# Altium schematic symbol library 610 0xx 133 21.SchLib: 12 symbols
Pins are listed as number, name and electrical type; pins without a type are passive.

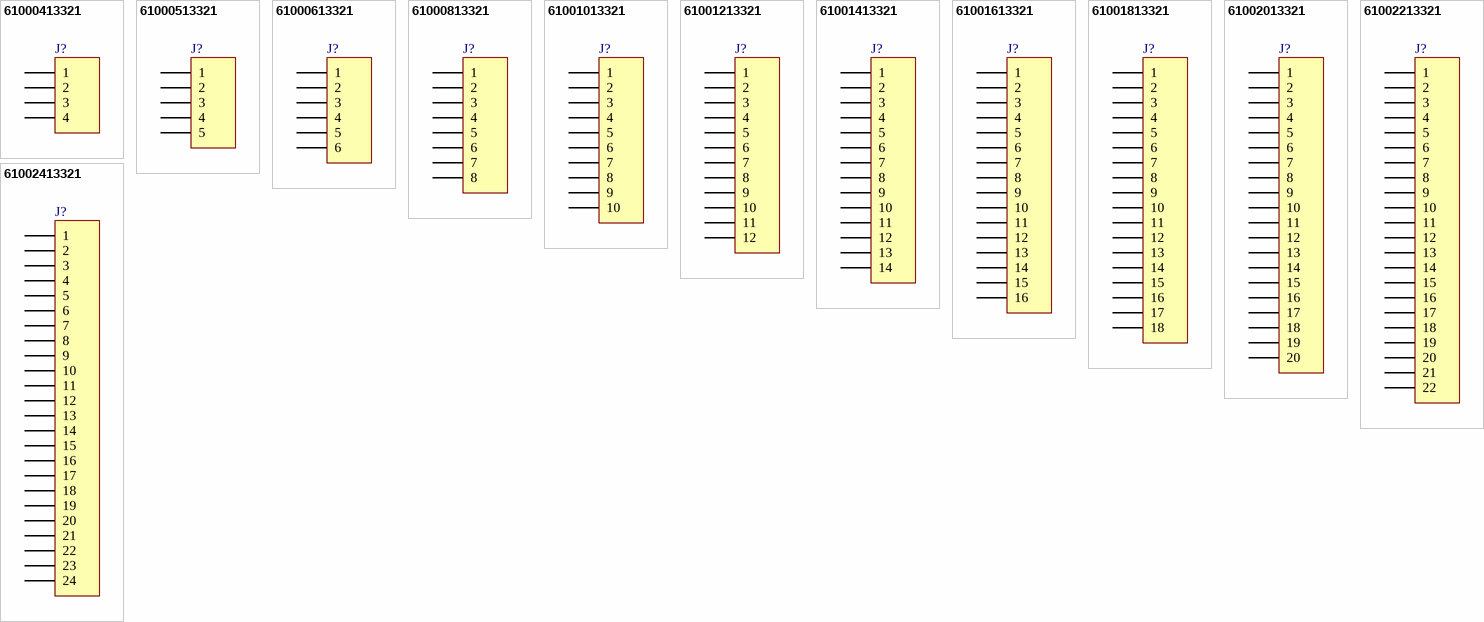
[diagram p0: symbols 61000413321 to 61002413321]

## 61000413321
designator J?, comment 04p  (value not drawn)
WR-PHD 2.54 mm SMT Socket Header, 04p; PartNumber: 61000413321; PublishedDate: July 2016; Publisher: Wurth Elektronik; ComponentLink1Description: Manufacturer; ComponentLink1URL: http://www.we-online.de; ComponentLink2Description: Datasheet; ComponentLink2URL: http://katalog.we-online.de/em/datasheet/6100xx13321.pdf; PinNumber: 04p
footprint 61000413321
pins: 1, 2, 3, 4

## 61000513321
designator J?, comment 05p  (value not drawn)
WR-PHD 2.54 mm SMT Socket Header, 05p; PartNumber: 61000513321; PublishedDate: July 2016; Publisher: Wurth Elektronik; ComponentLink1Description: Manufacturer; ComponentLink1URL: http://www.we-online.de; ComponentLink2Description: Datasheet; ComponentLink2URL: http://katalog.we-online.de/em/datasheet/6100xx13321.pdf; PinNumber: 05p
footprint 61000513321
pins: 1, 2, 3, 4, 5

## 61000613321
designator J?, comment 06p  (value not drawn)
WR-PHD 2.54 mm SMT Socket Header, 06p; PartNumber: 61000613321; PinNumber: 06; PublishedDate: July 2016; Publisher: Wurth Elektronik; ComponentLink1Description: Manufacturer; ComponentLink1URL: http://www.we-online.de; ComponentLink2Description: Datasheet; ComponentLink2URL: http://katalog.we-online.de/em/datasheet/6100xx13321.pdf
footprint 61000613321
pins: 1, 2, 3, 4, 5, 6

## 61000813321
designator J?, comment 08p  (value not drawn)
WR-PHD 2.54 mm SMT Socket Header, 08p; PartNumber: 61000813321; PinNumber: 08; PublishedDate: July 2016; Publisher: Wurth Elektronik; ComponentLink1Description: Manufacturer; ComponentLink1URL: http://www.we-online.de; ComponentLink2Description: Datasheet; ComponentLink2URL: http://katalog.we-online.de/em/datasheet/6100xx13321.pdf
footprint 61000813321
pins: 1, 2, 3, 4, 5, 6, 7, 8

## 61001013321
designator J?, comment 10p  (value not drawn)
WR-PHD 2.54 mm SMT Socket Header, 10p; PartNumber: 61001013321; PublishedDate: July 2016; Publisher: Wurth Elektronik; ComponentLink1Description: Manufacturer; ComponentLink1URL: http://www.we-online.de; ComponentLink2Description: Datasheet; ComponentLink2URL: http://katalog.we-online.de/em/datasheet/6100xx13321.pdf; PinNumber: 10p
footprint 61001013321
pins: 1, 2, 3, 4, 5, 6, 7, 8, 9, 10

## 61001213321
designator J?, comment 12p  (value not drawn)
WR-PHD 2.54 mm SMT Socket Header, 12p; PartNumber: 61001213321; PublishedDate: July 2016; Publisher: Wurth Elektronik; ComponentLink1Description: Manufacturer; ComponentLink1URL: http://www.we-online.de; ComponentLink2Description: Datasheet; ComponentLink2URL: http://katalog.we-online.de/em/datasheet/6100xx13321.pdf; PinNumber: 12p
footprint 61001213321
pins: 1, 2, 3, 4, 5, 6, 7, 8, 9, 10, 11, 12

## 61001413321
designator J?, comment 14p  (value not drawn)
WR-PHD 2.54 mm SMT Socket Header, 14p; PartNumber: 61001413321; PublishedDate: July 2016; Publisher: Wurth Elektronik; ComponentLink1Description: Manufacturer; ComponentLink1URL: http://www.we-online.de; ComponentLink2Description: Datasheet; ComponentLink2URL: http://katalog.we-online.de/em/datasheet/6100xx13321.pdf; PinNumber: 14p
footprint 61001413321
pins: 1, 2, 3, 4, 5, 6, 7, 8, 9, 10, 11, 12, 13, 14

## 61001613321
designator J?, comment 16p  (value not drawn)
WR-PHD 2.54 mm SMT Socket Header, 16p; PartNumber: 61001613321; PublishedDate: July 2016; Publisher: Wurth Elektronik; ComponentLink1Description: Manufacturer; ComponentLink1URL: http://www.we-online.de; ComponentLink2Description: Datasheet; ComponentLink2URL: http://katalog.we-online.de/em/datasheet/6100xx13321.pdf; PinNumber: 16p
footprint 61001613321
pins: 1, 2, 3, 4, 5, 6, 7, 8, 9, 10, 11, 12, 13, 14, 15, 16

## 61001813321
designator J?, comment 18p  (value not drawn)
WR-PHD 2.54 mm SMT Socket Header, 18p; PartNumber: 61001813321; PublishedDate: July 2016; Publisher: Wurth Elektronik; ComponentLink1Description: Manufacturer; ComponentLink1URL: http://www.we-online.de; ComponentLink2Description: Datasheet; ComponentLink2URL: http://katalog.we-online.de/em/datasheet/6100xx13321.pdf; PinNumber: 18p
footprint 61001813321
pins: 1, 2, 3, 4, 5, 6, 7, 8, 9, 10, 11, 12, 13, 14, 15, 16, 17, 18

## 61002013321
designator J?, comment 20p  (value not drawn)
WR-PHD 2.54 mm SMT Socket Header, 20p; PartNumber: 61002013321; PublishedDate: July 2016; Publisher: Wurth Elektronik; ComponentLink1Description: Manufacturer; ComponentLink1URL: http://www.we-online.de; ComponentLink2Description: Datasheet; ComponentLink2URL: http://katalog.we-online.de/em/datasheet/6100xx13321.pdf; PinNumber: 20p
footprint 61002013321
pins: 1, 2, 3, 4, 5, 6, 7, 8, 9, 10, 11, 12, 13, 14, 15, 16, 17, 18, 19, 20

## 61002213321
designator J?, comment 22p  (value not drawn)
WR-PHD 2.54 mm SMT Socket Header, 22p; PartNumber: 61002213321; PublishedDate: July 2016; Publisher: Wurth Elektronik; ComponentLink1Description: Manufacturer; ComponentLink1URL: http://www.we-online.de; ComponentLink2Description: Datasheet; ComponentLink2URL: http://katalog.we-online.de/em/datasheet/6100xx13321.pdf; PinNumber: 22p
footprint 61002213321
pins: 1, 2, 3, 4, 5, 6, 7, 8, 9, 10, 11, 12, 13, 14, 15, 16, 17, 18, 19, 20, 21, 22

## 61002413321
designator J?, comment 24p  (value not drawn)
WR-PHD 2.54 mm SMT Socket Header, 24p; PartNumber: 61002413321; PublishedDate: July 2016; Publisher: Wurth Elektronik; ComponentLink1Description: Manufacturer; ComponentLink1URL: http://www.we-online.de; ComponentLink2Description: Datasheet; ComponentLink2URL: http://katalog.we-online.de/em/datasheet/6100xx13321.pdf; PinNumber: 24p
footprint 61002413321
pins: 1, 2, 3, 4, 5, 6, 7, 8, 9, 10, 11, 12, 13, 14, 15, 16, 17, 18, 19, 20, 21, 22, 23, 24